# EAGLE library part LTC1624 (library linear-tech-3)
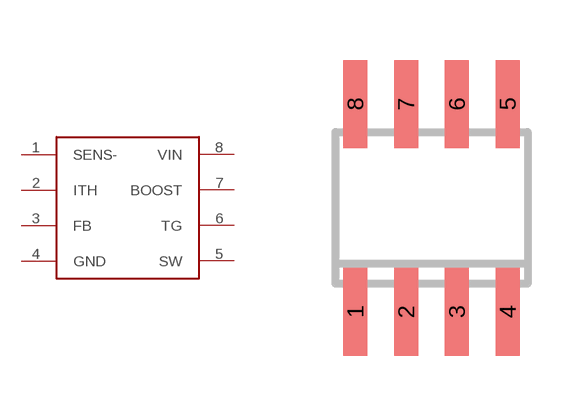
[diagram p53: symbol with the pads of SO08; footprint SO08]

Designator prefix IC

## LTC1624S8  [SO08]
1  SENS-
2  ITH
3  FB
4  GND  pwr
5  SW
6  TG
7  BOOST
8  VIN  in

## Footprint SO08 (pad centres in mm)
Small Outline IC
smd 0.6 x 2.2: 1 -1.905,-2.6; 2 -0.635,-2.6; 3 0.635,-2.6; 4 1.905,-2.6; 5 1.905,2.6; 6 0.635,2.6; 7 -0.635,2.6; 8 -1.905,2.6